# EAGLE library part PCAL6416A (library Micromouse 2020)
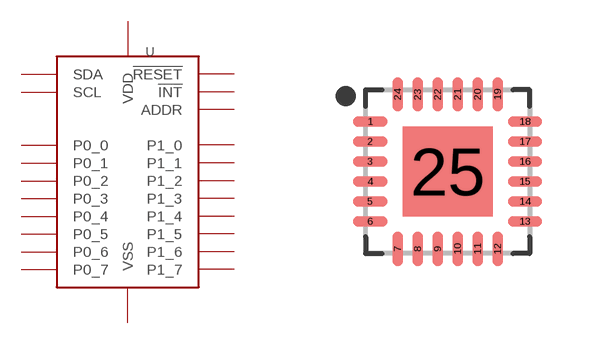
[diagram p12: symbol with the pads of PCAL6416A; footprint PCAL6416A]

Designator prefix U

## PCAL6416A  [PCAL6416A]
1  P0_0
2  P0_1
3  P0_2
4  P0_3
5  P0_4
6  P0_5
7  P0_6
8  P0_7
9  VSS  pas
10  P1_0
11  P1_1
12  P1_2
13  P1_3
14  P1_4
15  P1_5
16  P1_6
17  P1_7
18  ADDR  in
19  SCL  in
20  SDA
21  VDD  pwr
22  !INT  out
23  VDD  pwr
24  !RESET  in
25  VSS  pas

## Footprint PCAL6416A (pad centres in mm)
24-QFN, 0.50 mm pitch, 4.00 X 4.00 X 0.80 mm body, 2.25 X 2.25 mm thermal pad 24-pin QFN package with 0.50 mm pitch with body size 4.00 X 4.00 X 0.80 mm and thermal pad size 2.25 X 2.25 mm
smd 0.86 x 0.264: 1 -1.935,1.25; 2 -1.935,0.75; 3 -1.935,0.25; 4 -1.935,-0.25; 5 -1.935,-0.75; 6 -1.935,-1.25; 13 1.935,-1.25; 14 1.935,-0.75; 15 1.935,-0.25; 16 1.935,0.25; 17 1.935,0.75; 18 1.935,1.25
smd 0.264 x 0.86: 7 -1.25,-1.935; 8 -0.75,-1.935; 9 -0.25,-1.935; 10 0.25,-1.935; 11 0.75,-1.935; 12 1.25,-1.935; 19 1.25,1.935; 20 0.75,1.935; 21 0.25,1.935; 22 -0.25,1.935; 23 -0.75,1.935; 24 -1.25,1.935
smd 2.25 x 2.25: 25 0,0